# EAGLE library part ISO1050 (library SAE_2019)
ISO1050 TI - Isolated CAN Transceiver
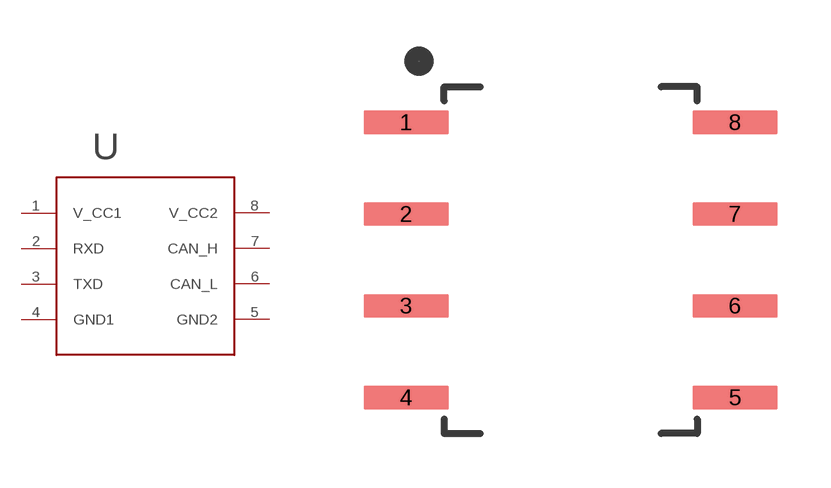
[diagram p12: symbol with the pads of DUB0008A; footprint DUB0008A]

Designator prefix -

## ISO1050  [DUB0008A]
1  V_CC1
2  RXD
3  TXD
4  GND1
5  GND2
6  CAN_L
7  CAN_H
8  V_CC2

## Footprint DUB0008A (pad centres in mm)
TE - DUB0008A SOP8 - 4.85 mm max height
smd 2.35 x 0.65: 1 -4.55,3.81; 2 -4.55,1.27; 3 -4.55,-1.27; 4 -4.55,-3.81; 5 4.55,-3.81; 6 4.55,-1.27; 7 4.55,1.27; 8 4.55,3.81